# Altium schematic symbol library Capacitors Polymer.SchLib: 1 symbol
Pins are listed as number, name and electrical type; pins without a type are passive.

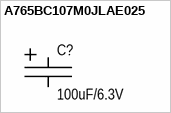
[diagram p0: symbol A765BC107M0JLAE025]

## A765BC107M0JLAE025
designator C?, comment 100uF/6.3V
CAP P 100uF 6.3V SM D5H6.3; Manufacturer: KEMET; Part name: A765BC107M0JLAE025; Group: Discrete; Lifetime/Temp: 2000 Hrs/105°C; Tolerance: ±20%; Type: Polymer; ESR: 25 mOhm; Component: Capacitor Aluminium; Voltage: 6.3V; Package: CAPA-D5H6.3; Capacitance: 100uF; Operating temperature: -55°C +105°C; Mounting type: Surface mount; Height: 6.30mm; Dimension: 5.30mm x 5.30mm
footprint CAP_P_SM_D5H6.3 (Footprint not found)
pins: N, P